# Altium footprint library EG1215AA.PcbLib: 1 footprints
Each footprint in its own frame and in the unit in brackets; x right, y up, seen from the top. Pads: shape width x height; smd on the part's side, far side on the other; paste and mask are expansions set on the pad; w line width, h text height; cw(c..) or ccw(c..) is an arc to the next point about the centre after c.
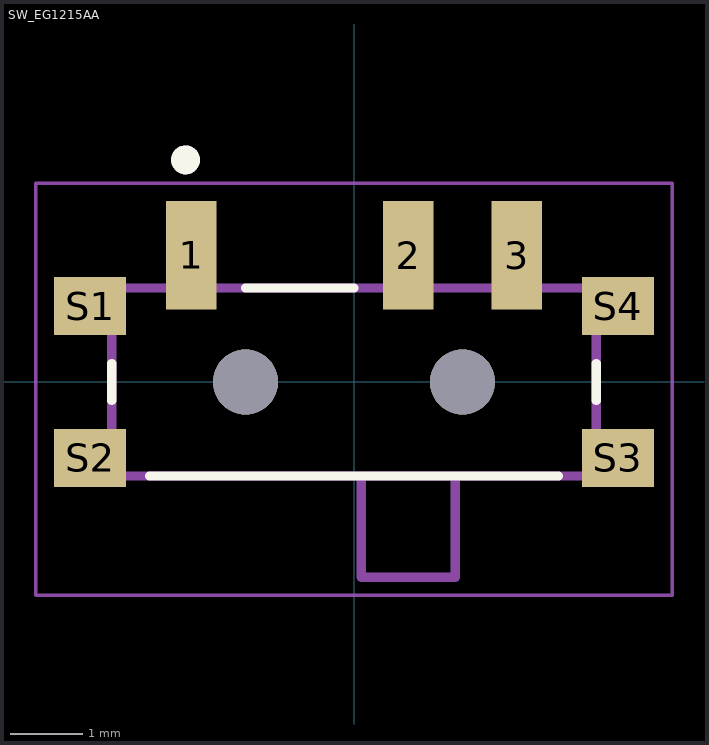
[diagram p0: the footprint, top view; thin cyan lines are the x and y axes]

## SW_EG1215AA [mm]
pads (9):
  rect 0.7x1.5 smd: 1(-2.25,1.75) 2(0.75,1.75) 3(2.25,1.75)
  rect 1x0.8 smd: S1(-3.65,1.05) S2(-3.65,-1.05) S3(3.65,-1.05) S4(3.65,1.05)
  round 0.9 hole 0.9 unplated: ""(-1.5,0) ""(1.5,0)
Top Overlay:
  circle w0.2: c-2.329,3.071 r0.1
  lines w0.127: -3.35,-0.254 -3.35,0.254 ; -2.83,-1.3 2.83,-1.3 ; -1.5,1.3 0,1.3 ; 3.35,-0.254 3.35,0.254
Mechanical 13:
  circle w0.2: c-2.329,3.071 r0.1
  lines w0.127: 0.1,-1.3 1.4,-1.3 ; 0.1,-1.3 0.1,-2.7 1.4,-2.7 1.4,-1.3 ; 0.1,-1.3 -3.35,-1.3 -3.35,1.3 3.35,1.3 3.35,-1.3 1.4,-1.3
Mechanical 15:
  lines w0.05: -4.4,-2.95 4.4,-2.95 4.4,2.75 -4.4,2.75 -4.4,-2.95
3D body "step_temp.STEP": height 0, standoff -1.7, extent -3.85,-2.2 3.85,2.7